# Altium footprint library 2.4GHz Bluetooth.PcbLib: 1 footprints
Each footprint in its own frame and in the unit in brackets; x right, y up, seen from the top. Pads: shape width x height; smd on the part's side, far side on the other; paste and mask are expansions set on the pad; w line width, h text height; cw(c..) or ccw(c..) is an arc to the next point about the centre after c.
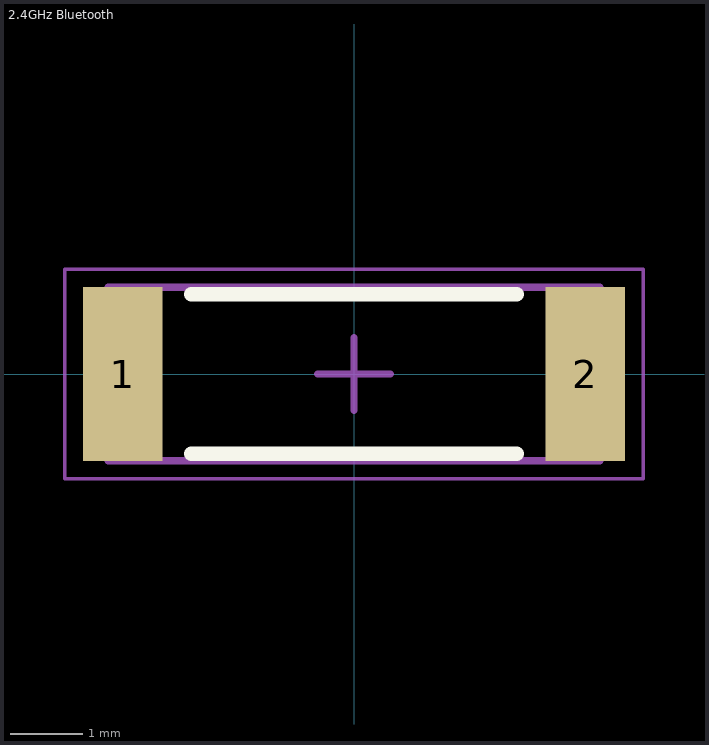
[diagram p0: the footprint, top view; thin cyan lines are the x and y axes]

## 2.4GHz Bluetooth [mm] "Chip Capacitor, 2-Leads, Body 6.55x2.20mm, IPC Medium Density"
height 1
pads (2):
  rect 1.1x2.4 smd: 1(-3.2,0) 2(3.2,0)
Top Overlay:
  lines w0.2: -2.25,-1.1 2.25,-1.1 ; -2.25,1.1 2.25,1.1
Mechanical 13:
  lines w0.1: -3.4,-1.2 -3.4,1.2 3.4,1.2 3.4,-1.2 -3.4,-1.2
Mechanical 15:
  lines w0.05: -4,-1.45 -4,1.45 4,1.45 4,-1.45 -4,-1.45
  lines w0.1: -0.5,0 0.5,0 ; 0,-0.5 0,0.5
3D body: height 1, standoff 0, extent -3,-1.2 3,1.2
3D body: height 1, standoff 0, extent -3.4,-1.2 -3,1.2
3D body: height 1, standoff 0, extent 3,-1.2 3.4,1.2